# Altium schematic symbol library SEMI.SchLib: 100 symbols
Pins are listed as number, name and electrical type; pins without a type are passive.

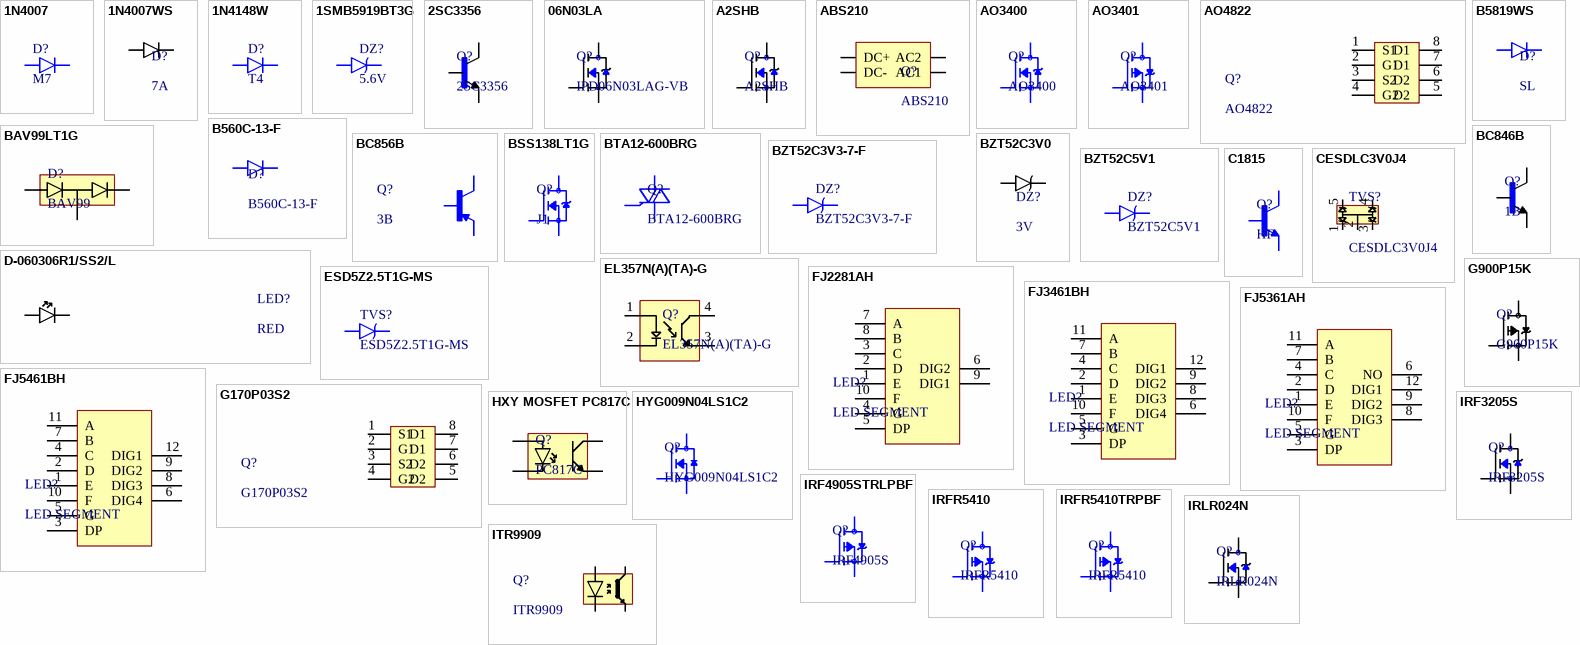
[diagram p0: symbols 1N4007 to ITR9909]

## 1N4007
designator D?, comment M7
Diode Independent 1kV 1A Surface Mount DO-214AC(SMA); Manufacturer: MSKSEMI; Mfr.Part #: 1N4007; Package: DO-214AC(SMA); LCSC Part #: C7528875; DigiKey Part Number: NO; ComponentLink1Description: Link; ComponentLink1URL: https://www.lcsc.com/product-detail/C7528875.html?s_z=n_1N4007
footprint SMA(DO-214AC)
footprint SMA(DO-214AC) - 2
pins: 1 A, 2 K

## 1N4007WS
designator D?, comment 7A
Independent Type 1A 1.1V@1A 1kV SOD-323 Diodes - General Purpose ROHS; Manufacturer: MSKSEMI; Mfr.Part #: 1N4007WS; So_Chan_Dan: 2; So_Chan_Cam: 0; Package: SOD-323; Name: 1N4007WS
footprint SOD-323
pins: 1 A, 2 K

## 1N4148W
designator D?, comment T4
2A 4ns Independent 100V 1.25V@150mA 150mA SOD-123 Single Diodes RoHS; Manufacturer: HXY MOSFET; Mfr.Part #: 1N4148W; Package: SOD-123; LCSC Part #: C5345962; DigiKey Part Number: NO
footprint SOD-123
footprint DO-35
pins: 1 A, 2 K

## 1SMB5919BT3G
designator DZ?, comment 5.6V
Independent Type 5.32V~5.88V 3W 5.6V SMB(DO-214AA) Zener Diodes ROHS; Manufacturer: FUXINSEMI; Mfr.Part #: 1SMB5919BT3G; Package: SMB(DO-214AA); LCSC Part #: C7422622
footprint SMB(DO-214AA)
pins: 1 A, 2 K

## 2SC3356
designator Q?
12V 200mW 100mA SOT-23 Bipolar Transistors - BJT ROHS; Manufacturer: Diotec Semiconductor; So_Chan_Dan: 3; So_Chan_Cam: 0; Mfr.Part #: 2SC3356; Name: 2SC3356; Package: SOT-23
footprint SOT-23
pins: 1 B, 2 E, 3 C

## 06N03LA
designator Q?, comment IPD06N03LAG-VB
20V 145A 3mΩ@4.5V 1PCSNChannel TO-252 MOSFETs ROHS; MF: Infineon Technologies; MP: IRF3205; SnapEDA_Link: https://www.snapeda.com/parts/IRF3205/Infineon+Technologies/view-part/?ref=snap; Package: TO-220 Infineon; Value: *; Check_prices: https://www.snapeda.com/parts/IRF3205/Infineon+Technologies/view-part/?ref=eda
footprint TO-252
pins: 1 G, 2 D, 3 S

## A2SHB
designator Q?
SOT-23 MOSFETs ROHS; Manufacturer: JSMSEMI; Mfr.Part #: JSM2302A-A2SHB; So_Chan_Dan: 3; So_Chan_Cam: 0; Package: SOT-23; Name: A2SHB
footprint SOT-23
pins: 1 G, 2 D, 3 S

## ABS210
designator Q?
Bridge Rectifier 1kV 2A Surface Mount ABS; Manufacturer: MDD(Microdiode Semiconductor); Package: ABS; Mfr.Part #: ABS210; LCSC Part #: C113925; DigiKey Part Number: 3372-ABS210TR-ND; ComponentLink1Description: Link; ComponentLink1URL: https://www.lcsc.com/product-detail/C113925.html; ComponentLink2Description: Link 1; ComponentLink2URL: https://www.digikey.com/en/products/detail/nextgen-components/ABS210/14632404
footprint ABS
pins: 1 DC+, 2 DC-, 3 AC1, 4 AC2

## AO3400
designator Q?
30V 5.8A 40mΩ@4.5V,5A 350mW 1.4V 1 N-channel SOT-23 MOSFETs ROHS; Manufacturer: TWGMC; So_Chan_Dan: 3; So_Chan_Cam: 0; Package: SOT-23; Mfr.Part #: AO3400; Name: AO3400
footprint SOT-23
pins: 1 G, 2 S, 3 D

## AO3401
designator Q?
30V 4.2A 65mΩ@10V,4.2A 350mW 1.3V@250uA 1 Piece P-Channel SOT-23 MOSFETs ROHS; Manufacturer: TWGMC; So_Chan_Dan: 3; So_Chan_Cam: 0; Package: SOT-23; Mfr.Part #: AO3401; Name: AO3401
footprint SOT-23
pins: 1 G, 2 S, 3 D

## AO4822
designator Q?
30V 8A 24mΩ@4.5V,8A 1.7W 1.9V 2 N-Channel SOP-8 MOSFETs ROHS; Manufacturer: JSMSEMI; Mfr.Part #: AO4822; LCSC Part #: C5183841; Package: SOP-8
footprint SOIC-8
pins: 1 S1, 2 G1, 3 S2, 4 G2, 5 D2, 6 D2, 7 D1, 8 D1

## B560C-13-F
designator D?
100A 1 Independent 60V 700mV@5A 5A SMC(DO-214AB) Single Diodes RoHS; Manufacturer: DIODES; Mfr.Part #: B560C-13-F; Package: SMC(DO-214AB); LCSC Part #: C85100; DigiKey Part Number: NO; ComponentLink1Description: Link; ComponentLink1URL: https://www.lcsc.com/product-detail/C85100.html?s_z=n_C85100; ComponentLink2Description: Link 1; ComponentLink2URL: https://www.digikey.com/en/products/detail/diodes-incorporated/B560C-13-F/768773
footprint SMC
pins: 1 A, 2 K

## B5819WS
designator D?, comment SL
25A 40V Independent 550mV@1A 1A SOD-323 Single Diodes RoHS; Manufacturer: GOODWORK; Mfr.Part #: B5819WS; Package: SOD-323; LCSC Part #: C6067464; DigiKey Part Number: NO
footprint SOD-323
pins: 1 A, 2 K

## BAV99LT1G
designator D?, comment BAV99
100V 1 pair in series 1.25V@150mA 6ns 215mA SOT-23 Switching Diodes ROHS; Manufacturer: onsemi; Mfr.Part #: BAV99LT1G; So_Chan_Dan: 2; So_Chan_Cam: 0; Package: SOT-23; Name: BAV99LT1G
footprint SOT-23
pins: 1 A, 2 C, 3 A/C

## BC846B
designator Q?, comment 1B
65V 200mW 200@2mA,5V NPN SOT-23-3 Bipolar (BJT) ROHS; Manufacturer: UMW(Youtai Semiconductor Co., Ltd.); Name: BC846B; Mfr.Part #: BC846B; Package: SOT-23-3
footprint SOT-23
pins: 1 B, 2 E, 3 C

## BC856B
designator Q?, comment 3B
65V 200mW 220@2mA,5V 100mA PNP SOT-23-3 Bipolar (BJT) ROHS; Manufacturer: UMW(Youtai Semiconductor Co., Ltd.); Mfr.Part #: BC856B; LCSC Part #: C545565; Package: SOT-23-3
footprint SOT-23
pins: 1 B, 2 E, 3 C

## BSS138LT1G
designator Q?, comment J1
N-Channel 50V 200mA 225mW Surface Mount SOT-23; Manufacturer: onsemi; Mfr.Part #: BSS138LT1G; Package: SOT-23; LCSC Part #: C82045; DigiKey Part Number: BSS138LT1GOSTR-ND; ComponentLink1Description: Link; ComponentLink1URL: https://www.lcsc.com/product-detail/C82045.html?s_z=n_BSS138; ComponentLink2Description: Link 1; ComponentLink2URL: https://www.digikey.com/en/products/detail/onsemi/BSS138LT1G/918376?s=N4IgTCBcDaIEIGUEEYDMAOAMgFWQcRAF0BfIA
footprint SOT-23
pins: 1 G, 2 S, 3 D

## BTA12-600BRG
designator Q?
600V 12A Through Hole TO-220AB; Manufacturer: ST; Mfr.Part #: BTA12-600BRG; Package: TO-220AB; LCSC Part #: C10063; DigiKey Part Number: 497-2388-5-ND; ComponentLink1Description: Link; ComponentLink1URL: https://www.lcsc.com/product-detail/C10063.html?s_z=n_BTA12-600B; ComponentLink2Description: Link 1; ComponentLink2URL: https://www.digikey.com/en/products/detail/stmicroelectronics/BTA12-600BRG/603413
footprint TO-220
pins: 1 T1, 2 T2, 3 G

## BZT52C3V0
designator DZ?, comment 3V
Independent Type 2.8V~3.2V 500mW 3V SOD-123 Zener Diodes ROHS; Manufacturer: GOODWORK; Mfr.Part #: BZT52C3V0; Package: SOD-123
footprint SOD-123
pins: 1 A, 2 K

## BZT52C3V3-7-F
designator DZ?
Zener Diode Independent 3.3V 370mW Surface Mount SOD-123; Manufacturer: DIODES; Mfr.Part #: BZT52C3V3-7-F; Package: SOD-123; LCSC Part #: C151564; DigiKey Part Number: BZT52C3V3-FDITR-ND; ComponentLink1Description: Link; ComponentLink1URL: https://www.lcsc.com/product-detail/C151564.html; ComponentLink2Description: Link 1; ComponentLink2URL: https://www.digikey.com/en/products/detail/diodes-incorporated/BZT52C3V3-7-F/717734?s=N4IgTCBcDaIEIC0AqBWMBhAzANUwWgHY8AxEAXQF8g
footprint SOD-123
pins: 1 A, 2 K

## BZT52C5V1
designator DZ?
Independent Type 4.8V~5.4V 500mW 5.1V SOD-123 Zener Diodes ROHS; Manufacturer: MDD(Microdiode Semiconductor); So_Chan_Dan: 2; So_Chan_Cam: 0; Mfr.Part #: BZT52C5V1; Package: SOD-123; Name: BZT52C5V1
footprint SOD-123
pins: 1 A, 2 K

## C1815
designator Q?, comment HF
Bipolar (BJT) Transistor NPN 50V 150mA 80MHz 200mW Surface Mount SOT-23; Manufacturer: Shikues; Mfr.Part #: C1815; Package: SOT-23; LCSC Part #: C123401; DigiKey Part Number: NO; ComponentLink1Description: Link; ComponentLink1URL: https://www.lcsc.com/product-detail/C123401.html?s_z=n_C123401; ComponentLink2Description: Link 1
footprint SOT-23
pins: 1 B, 2 E, 3 C

## CESDLC3V0J4
designator TVS?
2.5A 8V 5.3V Unidirectional 3V SOT-353 ESD and Surge Protection (TVS/ESD) ROHS; Manufacturer: Jiangsu Changjing Electronics Technology Co., Ltd.; So_Chan_Dan: 5; So_Chan_Cam: 0; Mfr.Part #: CESDLC3V0J4; Package: SOD-323; Name: CESDLC3V0J4
footprint SOT-353
pins: 1 C, 2 A, 3 C, 4 C, 5 C

## D-060306R1/SS2/L
designator LED?, comment RED
Red 0603 LED Indication - Discrete ROHS; Manufacturer: ARKLED(Wuxi ARK Tech Elec); Mfr.Part #: D-060306R1/SS2/L; Package: 0603; LCSC Part #: C118330
footprint LED-0603
pins: 1 A, 2 K

## EL357N(A)(TA)-G
designator Q?
80V 3.75kV 50mA 100mV@1mA,20mA 1 6V 1.2V DC SOP-4-2.54mm Optocouplers - Phototransistor Output ROH; MP: EL357N-G; MF: Everlight Electronics; Price: None; SnapEDA_Link: https://www.snapeda.com/parts/EL357N-G/Everlight+Electronics+Co+Ltd/view-part/?ref=snap; Package: SOP-4 Everlight; Check_prices: https://www.snapeda.com/parts/EL357N-G/Everlight+Electronics+Co+Ltd/view-part/?ref=eda; Value: *; Availability: In Stock; Purchase-URL: https://pricing.snapeda.com/search/part/EL357N-G/?ref=eda
footprint SOP-4-2.54mm
pins: 1 A, 2 C, 3 ET, 4 CT

## ESD5Z2.5T1G-MS
designator TVS?
10.9VC Clamp 11A Ipp ESD DIODE SOD-523; Manufacturer: MSKSEMI; Mfr.Part #: ESD5Z2.5T1G-MS; Package: SOD-523; LCSC Part #: C3008118; DigiKey Part Number: NO; ComponentLink1Description: Link; ComponentLink1URL: https://www.lcsc.com/product-detail/C3008118.html?s_z=n_ESD5Z2.5T1G-MS
footprint SOD-523
pins: 1 A, 2 K

## FJ2281AH
designator LED?, comment LED SEGMENT
Display Modules - LED Character and Numeric Red 2 Character Common Cathode Through Hole; Manufacturer: ZHIHAO; Mfr.Part #: FJ2281AH; Package: Through Hole; LCSC Part #: C10693; DigiKey Part Number: NO; ComponentLink1Description: Link; ComponentLink1URL: https://www.lcsc.com/product-detail/C10693.html; ComponentLink2Description: Link
footprint LED SEGMENT 2 POSITIONS 0.28INCH
pins: 1 E, 2 D, 3 C, 4 G, 5 DP, 6 DIG2, 7 A, 8 B, 9 DIG1, 10 F

## FJ3461BH
designator LED?, comment LED SEGMENT
Display Modules - LED Character and Numeric Red 4 Character Common Anode Through Hole,DISPLAY 0.36" QUAD RED TH; Manufacturer: ZHIHAO; Mfr.Part #: FJ3461BH; Package: Through Hole; LCSC Part #: C10711; DigiKey Part Number: NO; ComponentLink1Description: Link; ComponentLink1URL: https://www.lcsc.com/product-detail/C10711.html?s_z=n_FJ3461BH
footprint LED_7_THANH_4_SO_0.36_INCH - 1
pins: 1 E, 2 D, 3 DP, 4 C, 5 G, 6 DIG4, 7 B, 8 DIG3, 9 DIG2, 10 F, 11 A, 12 DIG1

## FJ5361AH
designator LED?, comment LED SEGMENT
Display Modules - LED Character and Numeric Red 3 Character Common Cathode Through Hole; Manufacturer: ZHIHAO; Mfr.Part #: FJ5361AH; Package: Through Hole; LCSC Part #: C18187; DigiKey Part Number: NO; ComponentLink1Description: Link; ComponentLink1URL: https://www.lcsc.com/product-detail/C18187.html; ComponentLink2Description: Link
footprint LED SEGMENT 3 POSITIONS 0.56INCH
pins: 1 E, 2 D, 3 DP, 4 C, 5 G, 6 NO, 7 B, 8 DIG3, 9 DIG2, 10 F, 11 A, 12 DIG1

## FJ5461BH
designator LED?, comment LED SEGMENT
Display Modules - LED Character and Numeric Red 4 Character Common Anode Through Hole; Manufacturer: ZHIHAO; Mfr.Part #: FJ5461BH; Package: Through Hole; LCSC Part #: C10713; DigiKey Part Number: NO
footprint LED SEGMENT 4 POSITIONS 0.56INCH
pins: 1 E, 2 D, 3 DP, 4 C, 5 G, 6 DIG4, 7 B, 8 DIG3, 9 DIG2, 10 F, 11 A, 12 DIG1

## G170P03S2
designator Q?
30V 9A 25mΩ@5A,4.5V 1.4W 2.5V@250uA 2 P-Channel SOP-8 MOSFETs ROHS; Manufacturer: GOFORD; So_Chan_Dan: 6; So_Chan_Cam: 0; Mfr.Part #: G170P03S2; Name: G170P03S2; Package: SOP-8
footprint SOIC-8
pins: 1 S1, 2 G1, 3 S2, 4 G2, 5 D2, 6 D2, 7 D1, 8 D1

## G900P15K
designator Q?
P-Channel 150 V 35A (Tc) 198W (Tc) Surface Mount TO-252; Manufacturer: Goford Semiconductor; Package: TO-252; Mfr.Part #: G900P15K; DigiKey Part Number: 3141-G900P15KTR-ND
footprint TO-252
pins: 1 G, 2 D, 3 S

## HXY MOSFET PC817C
designator Q?, comment PC817C
Phototransistor Output 5kVrms 1 Channel SMD-4P; Manufacturer: HXY MOSFET; Mfr.Part #: PC817C; LCSC Part #: C5451663; Package: SMD-4P; DigiKey Part Number: NO; ComponentLink1Description: Link; ComponentLink1URL: https://www.lcsc.com/product-detail/C5451663.html?s_z=n_c5451663; ComponentLink2Description: Link 1
footprint SOP-4
pins: 1 A, 2 K, 3 E, 4 C

## HYG009N04LS1C2
designator Q?
N-Channel 40V 200A 75W Surface Mount PDFN5x6-8L; Manufacturer: HUAYI; Package: PDFN5x6-8L; Mfr.Part #: HYG009N04LS1C2; LCSC Part #: C2890387; DigiKey Part Number: NO; ComponentLink1Description: Link; ComponentLink1URL: https://www.lcsc.com/product-detail/C2890387.html; ComponentLink2Description: Link 1
footprint PDFN5060-8L-1.1MM
pins: 1 S, 2 S, 3 S, 4 G, 5_8 D

## IRF3205S
designator Q?
TO-263 MOSFETs ROHS; Manufacturer: JSMSEMI; So_Chan_Dan: 3; So_Chan_Cam: 0; Mfr.Part #: IRF3205S; Package: TO-263; Name: IRF3205S
footprint TO-263
pins: 1 G, 2 D, 3 S

## IRF4905STRLPBF
designator Q?, comment IRF4905S
P-Channel 55V 70A 170W Surface Mount D2PAK; Manufacturer: Infineon; Mfr.Part #: IRF4905STRLPBF; Package: D2PAK; LCSC Part #: C2620; DigiKey Part Number: IRF4905STRLPBFTR-ND; ComponentLink1Description: Link; ComponentLink1URL: https://www.lcsc.com/product-detail/C2620.html?s_z=n_IRF4905S; ComponentLink2Description: Link 1; ComponentLink2URL: https://www.digikey.com/en/products/detail/infineon-technologies/IRF4905STRLPBF/1928283?s=N4IgTCBcDaIJICUBiAWAnABgKwGUAqCAMgAoBCSIAugL5A
footprint TO-263
pins: 1 G, 2 D, 3 S

## IRFR5410
designator Q?
100V 13A Surface Mount TO-252; Manufacturer: TECH PUBLIC; Package: TO-252; Mfr.Part #: IRFR5410; LCSC Part #: C5342377; DigiKey Part Number: NO; ComponentLink1Description: Link; ComponentLink1URL: https://www.lcsc.com/product-detail/C5342377.html?s_z=n_IRF5410; ComponentLink2Description: Link 1
footprint TO-252
pins: 1 G, 2 D, 3 S

## IRFR5410TRPBF
designator Q?, comment IRFR5410
P-Channel 100V 13A 66W Surface Mount DPAK(TO-252AA); Manufacturer: Infineon; Mfr.Part #: IRFR5410TRPBF; Package: DPAK(TO-252AA); LCSC Part #: C3018; DigiKey Part Number: IRFR5410PBFTR-ND; ComponentLink1Description: Link; ComponentLink1URL: https://www.lcsc.com/product-detail/C3018.html?s_z=n_C3018; ComponentLink2Description: Link 1; ComponentLink2URL: https://www.digikey.com/en/products/detail/infineon-technologies/IRFR5410TRPBF/812646?s=N4IgTCBcDaIJICUBiCCsAWAjABgCoIAUAhJEAXQF8g
footprint TO-252
pins: 1 G, 2 D, 3 S

## IRLR024N
designator Q?
55V 17A 45W 65mΩ@10V,10A 2V@250uA 1PCSNChannel TO-252-2(DPAK) MOSFETs ROHS; Manufacturer: Infineon Technologies; Mfr.Part #: IRLR024NTRPBF; So_Chan_Dan: 3; So_Chan_Cam: 0; Package: TO-252-2(DPAK); Name: IRLR024N
footprint TO-252
pins: 1 G, 2 D, 3 S

## ITR9909
designator Q?
Reflective Optical Interrupters ROHS; Manufacturer: XINGLIGHT; Mfr.Part #: XL-ITR9909; So_Chan_Dan: 0; So_Chan_Cam: 4; Name: ITR9909; Package: Plugin
footprint ITR9909
pins: 1 K, 2 A, 3 E, 4 C

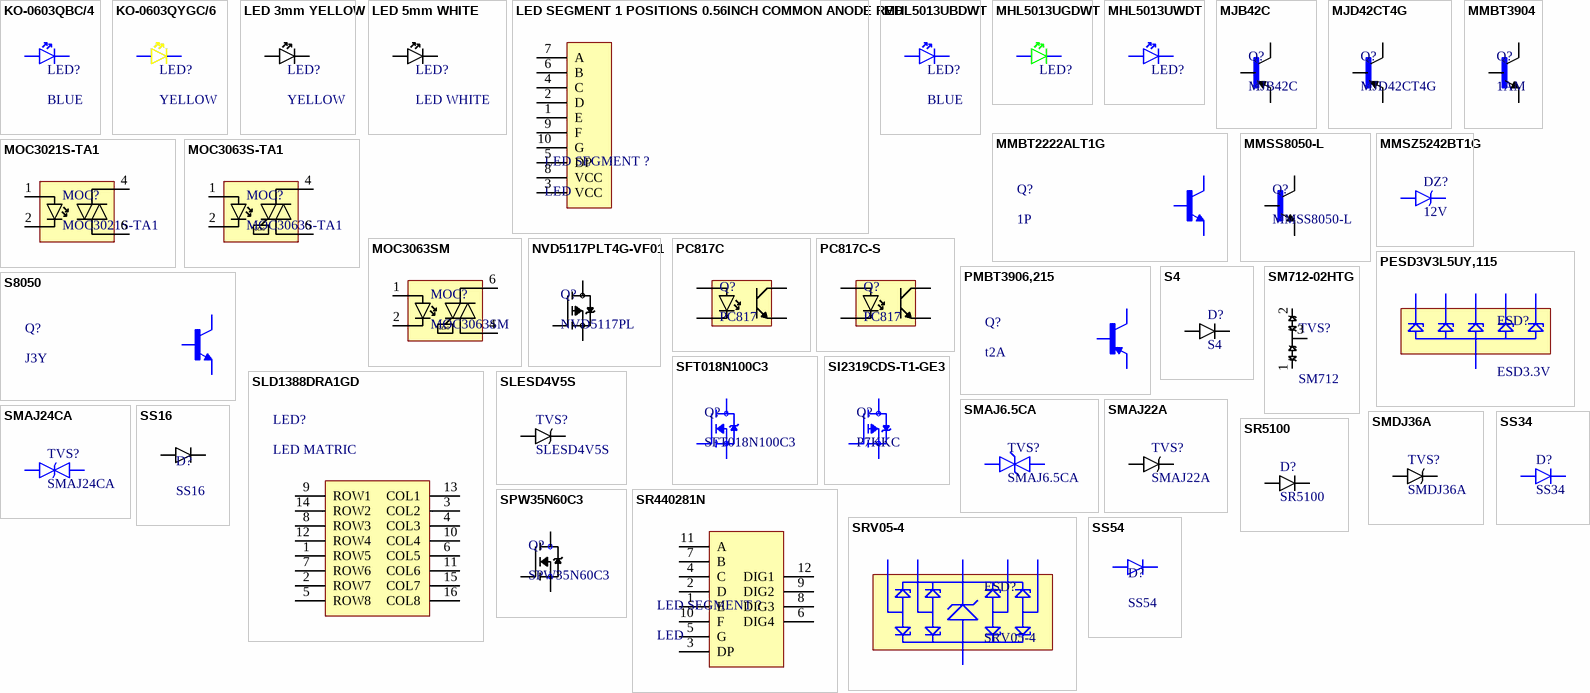
[diagram p1: symbols KO-0603QBC/4 to SS54]

## KO-0603QBC/4
designator LED?, comment BLUE
0603 BLUE; Manufacturer: NO; Mfr.Part #: KO-0603QBC/4; Package: 0603; LCSC Part #: NO; DigiKey Part Number: NO; ComponentLink1Description: Link; ComponentLink2Description: Link 1
footprint LED-0603
pins: 1 A, 2 K

## KO-0603QYGC/6
designator LED?, comment YELLOW
0603 YELLOW; Manufacturer: NO; Mfr.Part #: KO-0603QYGC/6; Package: 0603; LCSC Part #: NO; DigiKey Part Number: NO; ComponentLink1Description: Link; ComponentLink2Description: Link 1
footprint LED-0603
pins: 1 A, 2 K

## LED 3mm YELLOW
designator LED?, comment YELLOW
20mA Yellow lens -20℃~+75℃ 590nm~595nm Yellow 30° 3mm round bulb 60mW Plugin,D=3mm LED Indication - Discrete ROHS; Manufacturer: TUOZHAN; Mfr.Part #: TZ-L2-03YYBY2YDJ30-001; Name: LED 3mm YELLOW; So_Chan_Dan: 0; So_Chan_Cam: 2; Package: Plugin,D=3mm
footprint LED-3MM-YELLOW
pins: 1 A, 2 K

## LED 5mm WHITE
designator LED?, comment LED WHITE
20mA Colorless transparent lens -40℃~+85℃ White 15° 5mm round lamp head 100mW Plugin,D=5mm LED Indication - Discrete ROHS; Manufacturer: Everlight Elec; Mfr.Part #: 333-2UTC/S400-A6; Name: LED 5mm WHITE; So_Chan_Dan: 0; So_Chan_Cam: 2; Package: Plugin,D=5mm
footprint LED-5MM-WHITE
pins: 1 A, 2 K

## LED SEGMENT 1 POSITIONS 0.56INCH COMMON ANODE RED
designator LED SEGMENT ?, comment LED
Red 1 Digit Common Anode 0.56 Plugin LED Segment Displays ROHS; Manufacturer: Shenzhen Zhihao Elec; Mfr.Part #: FJ5161BH; Name: LED SEGMENT 1 POSITIONS 0.56INCH COMMON ANODE RED; So_Chan_Dan: 0; So_Chan_Cam: 10; Package: Plugin
footprint LED SEGMENT 1POSITIONS 0.56INCH
pins: 1 E, 2 D, 3 VCC, 4 C, 5 DP, 6 B, 7 A, 8 VCC, 9 F, 10 G

## MHL5013UBDWT
designator LED?, comment BLUE
20mA Colorless Transparent Lens 468nm -25℃~+85℃ Blue 30° 5mm round lamp head 120mW Plugin,D=5mm LED Indication - Discrete ROHS; Manufacturer: MEIHUA; Mfr.Part #: MHL5013UBDWT; LCSC Part #: C559114; Package: Through Hole,D=5mm
footprint LED-5MM-BLUE
pins: 1 A, 2 K

## MHL5013UGDWT
designator LED?, comment GREEN  (value not drawn)
Emerald Green 525nm LED Indication - Discrete 3.2V Through Hole,D=5mm; Manufacturer: MEIHUA; Mfr.Part #: MHL5013UGDWT; LCSC Part #: C417346; Package: Through Hole,D=5mm; DigiKey Part Number: NO; ComponentLink1Description: Link; ComponentLink1URL: https://www.lcsc.com/product-detail/C417346.html?s_z=n_MHL5013UGDWT; ComponentLink2Description: Link 1
footprint LED-5MM-GREEN
pins: 1 A, 2 K

## MHL5013UWDT
designator LED?, comment WHITE  (value not drawn)
White LED Indication - Discrete 3.2V Through Hole,D=5mm; Manufacturer: MEIHUA; Mfr.Part #: MHL5013UWDT; LCSC Part #: C559115; Package: Through Hole,D=5mm; DigiKey Part Number: NO; ComponentLink1Description: Link; ComponentLink1URL: https://www.lcsc.com/product-detail/C559115.html
footprint LED-5MM-WHITE
pins: 1 A, 2 K

## MJB42C
designator Q?
100V 2W 15@3A,4V 6A PNP TO-263-2 Bipolar (BJT) ROHS; Manufacturer: onsemi; Mfr.Part #: MJB42CT4G; So_Chan_Dan: 3; So_Chan_Cam: 0; Name: MJB42C; Package: TO-263-2
footprint TO-263
pins: 1 B, 2 C, 3 E

## MJD42CT4G
designator Q?
100V 6A PNP TO-252 Bipolar (BJT) ROHS; Manufacturer: MSKSEMI; So_Chan_Dan: 3; So_Chan_Cam: 0; Mfr.Part #: MJD42CT4G; Name: MJD42CT4G; Package: TO-252
footprint TO-252
pins: 1 B, 2 C, 3 E

## MMBT2222ALT1G
designator Q?, comment 1P
Bipolar (BJT) Transistor NPN 40V 600mA 225mW Surface Mount SOT-23; Manufacturer: onsemi; Mfr.Part #: MMBT2222ALT1G; LCSC Part #: C82460; Package: SOT-23; DigiKey Part Number: MMBT2222ALT1GOSTR-ND; ComponentLink1Description: Link; ComponentLink1URL: https://www.lcsc.com/product-detail/C82460.html?s_z=n_mmbt; ComponentLink2Description: Link 1; ComponentLink2URL: https://www.digikey.com/en/products/detail/onsemi/MMBT2222ALT1G/919593
footprint SOT-23
pins: 1 B, 2 E, 3 C

## MMBT3904
designator Q?, comment 1AM
40V 200mW 100@10mA,1V 200mA NPN SOT-23 Bipolar Transistors - BJT ROHS; Manufacturer: HXY MOSFET MMBT3904; Mfr.Part #: MMBT3904; So_Chan_Dan: 3; So_Chan_Cam: 0; Name: MMBT3904; Package: SOT-23
footprint SOT-23
pins: 1 B, 2 E, 3 C

## MMSS8050-L
designator Q?
25V 625mW 120@100mA,1V 1.5A NPN SOT-23 Bipolar (BJT) ROHS; Manufacturer: MCC(Micro Commercial Components); Mfr.Part #: MMSS8050-L-TP; So_Chan_Dan: 3; So_Chan_Cam: 0; Name: MMSS8050-L; Package: SOT-23
footprint SOT-23
pins: 1 B, 2 E, 3 C

## MMSZ5242BT1G
designator DZ?, comment 12V
Zener Diode Independent 12V 500mW Surface Mount SOD-123; Manufacturer: onsemi; Mfr.Part #: MMSZ5242BT1G; Package: SOD-123; LCSC Part #: C82050; DigiKey Part Number: MMSZ5242BT1GOSTR-ND; ComponentLink1Description: Link; ComponentLink1URL: https://www.lcsc.com/product-detail/C82050.html; ComponentLink2Description: Link 1; ComponentLink2URL: https://www.digikey.com/en/products/detail/onsemi/MMSZ5242BT1G/919759
footprint SOD-123
pins: 1 A, 2 K

## MOC3021S-TA1
designator MOC?
1000V/us 50mA 1.15V 400V SMD-6P Triac, SCR Output Optoisolators RoHS; Manufacturer: LITEON; Mfr.Part #: MOC3021S-TA1; Package: SMD-6P; LCSC Part #: C115465; DigiKey Part Number: 160-2045-2-ND; ComponentLink1Description: Link; ComponentLink1URL: https://www.lcsc.com/product-detail/C115465.html?s_z=n_MOC3021S-TA1; ComponentLink2Description: Link 1; ComponentLink2URL: https://www.digikey.com/en/products/detail/liteon/MOC3021S-TA1/388489?s=N4IgTCBcDaILIHkDCBmADGAjAZQLQBUBBTEAXQF8g
footprint SMD-6P
pins: 1 ANODE, 2 CATHODE, 4 MAIN_TERMINAL1, 6 MAIN_TERMINAL2

## MOC3063S-TA1
designator MOC?
1000V/us 1A 20mA 600V 1.4V SMD-6P Triac, SCR Output Optoisolators RoHS; Manufacturer: LITEON; Mfr.Part #: MOC3063S-TA1; Package: SMD-6P; LCSC Part #: C77950; DigiKey Part Number: 160-1723-2-ND; ComponentLink1Description: Link; ComponentLink1URL: https://www.lcsc.com/product-detail/C77950.html?s_z=n_moc3063; ComponentLink2Description: Link 1; ComponentLink2URL: https://www.digikey.com/en/products/detail/liteon/MOC3063S-TA1/670015
footprint SMD-6P
pins: 1 ANODE, 2 CATHODE, 4 MAIN_TERMINAL1, 6 MAIN_TERMINAL2
text: ZERO

## MOC3063SM
designator MOC?
600V/us 100mA 60mA 1.3V 600V SMD-6P Triac, SCR Output Optoisolators RoHS; Manufacturer: onsemi; Mfr.Part #: MOC3063SM; Package: SMD-6P; LCSC Part #: C899841; DigiKey Part Number: MOC3063SM-ND; ComponentLink1Description: Link; ComponentLink1URL: https://www.lcsc.com/product-detail/C899841.html?s_z=n_MOC3063; ComponentLink2Description: Link 1; ComponentLink2URL: https://www.digikey.com/en/products/detail/onsemi/MOC3063SM/401990
footprint SMD-6P
pins: 1 ANODE, 2 CATHODE, 4 MAIN_TERMINAL1, 6 MAIN_TERMINAL2
text: ZERO

## NVD5117PLT4G-VF01
designator Q?, comment NVD5117PL
60V 61A 16mΩ@10V,61A 118W 1.5V 1 piece P-channel DPAK MOSFETs ROHS; Manufacturer: onsemi; Mfr.Part #: NVD5117PLT4G-VF01; Package: DPAK; LCSC Part #: C604532
footprint TO-252
pins: 1 G, 2 D, 3 S

## PC817C
designator Q?, comment PC817
Phototransistor Output 5kVrms 1 Channel SMD-4P; Manufacturer: GOODWORK; Mfr.Part #: PC817C; LCSC Part #: C3025164; Package: SMD-4P; DigiKey Part Number: NO; ComponentLink1Description: Link; ComponentLink1URL: https://www.lcsc.com/product-detail/C3025164.html?s_z=n_C3025164; ComponentLink2Description: Link 1
footprint SOP-4
pins: 1 A, 2 K, 3 E, 4 C

## PC817C-S
designator Q?, comment PC817
Phototransistor Output 5kVrms 1 Channel SOP-4-2.54mm; Manufacturer: UMW; Mfr.Part #: PC817C-S; Package: SOP-4-2.54mm; LCSC Part #: C3008369; DigiKey Part Number: NO; ComponentLink1Description: Link; ComponentLink1URL: https://www.lcsc.com/product-detail/C3008369.html?s_z=n_C3008369; ComponentLink2Description: Link 1
footprint SOP-4
pins: 1 A, 2 K, 3 E, 4 C

## PESD3V3L5UY,115
designator ESD?, comment ESD3.3V
12VC Clamp 2.5A@8/20us Ipp ESD DIODE SOT-363; Manufacturer: Nexperia; Mfr.Part #: PESD3V3L5UY,115; So_Chan_Cam: 0; Package: SOT-363; LCSC Part #: C477992; DigiKey Part Number: 1727-3828-2-ND; ComponentLink1Description: Link; ComponentLink1URL: https://www.lcsc.com/product-detail/C477992.html?s_z=n_PESD3V3L5UY%252C115; ComponentLink2Description: Link 1; ComponentLink2URL: https://www.digikey.com/en/products/detail/nexperia-usa-inc/PESD3V3L5UY-115/1157444?s=N4IgTCBcDaIAoFEDKARAzANTQGQKwFUBNAGgEZTcQBdAXyA
footprint SOT-363
pins: 1 C, 2 A, 3 C, 4 C, 5 C, 6 C

## PMBT3906,215
designator Q?, comment t2A
Bipolar (BJT) Transistor PNP 40V 200mA 250MHz 250mW Surface Mount SOT-23; Manufacturer: Nexperia; Mfr.Part #: PMBT3906,215; LCSC Part #: C8670; Package: SOT-23; DigiKey Part Number: 1727-2960-2-ND; ComponentLink1Description: Link; ComponentLink1URL: https://www.lcsc.com/product-detail/C8670.html?s_z=n_PMBT3906; ComponentLink2Description: Link 1; ComponentLink2URL: https://www.digikey.com/en/products/detail/nexperia-usa-inc/PMBT3906-215/763346
footprint SOT-23
pins: 1 B, 2 E, 3 C

## S4
designator D?
40V Single 350mA 600mV@200mA SOD-123 Schottky Barrier Diodes (SBD) ROHS; Manufacturer: HXY MOSFET; Mfr.Part #: 1N5819W; So_Chan_Dan: 2; So_Chan_Cam: 0; Package: SOD-123; Name: 1N5819W
footprint SOD-123
pins: 1 A, 2 K

## S8050
designator Q?, comment J3Y
25V 300mW 350@50mA,1V 300mA NPN SOT-23 Bipolar (BJT) ROHS; Manufacturer: JSMSEMI; Mfr.Part #: S8050-J3Y; LCSC Part #: C18221467; Package: SOT-23; DigiKey Part Number: NO
footprint SOT-23
pins: 1 B, 2 E, 3 C

## SFT018N100C3
designator Q?
N-Channel 100V 320A 312W Surface Mount TOLL; Manufacturer: SCILICON; Package: TOLL; Mfr.Part #: SFT018N100C3; LCSC Part #: C42395330; DigiKey Part Number: NO; ComponentLink1Description: Link; ComponentLink1URL: https://www.lcsc.com/product-detail/C42395330.html?s_z=n_c42395330; ComponentLink2Description: Link 1
footprint TOLL
pins: 1 G, 2 S, 3 D

## SI2319CDS-T1-GE3
designator Q?, comment P7KKC
P-Channel 40V 4.4A 2.5W Surface Mount SOT-23; Manufacturer: VISHAY; Mfr.Part #: SI2319CDS-T1-GE3; Package: SOT-23; LCSC Part #: C146287; DigiKey Part Number: SI2319CDS-T1-GE3TR-ND; ComponentLink1Description: Link; ComponentLink1URL: https://www.lcsc.com/product-detail/C146287.html?s_z=n_Si2319; ComponentLink2Description: Link 1; ComponentLink2URL: https://www.digikey.com/en/products/detail/vishay-siliconix/SI2319CDS-T1-GE3/2441585?s=N4IgTCBcDaIMoEkwGYCMBOAwgETgWgBVU8BxAUWRAF0BfIA
footprint SOT-23
pins: 1 G, 2 S, 3 D

## SLD1388DRA1GD
designator LED?, comment LED MATRIC
Common Anode 8x8 Red Plugin LED Dot Matrix and Cluster ROHS; Manufacturer: SUNLIGHT; Mfr.Part #: SLD1388DRA1GD; Package: Through Hole; LCSC Part #: C2913075; DigiKey Part Number: NO
footprint LED MATRIX 8X8DOT 32X32MM
pins: 1 ROW5, 2 ROW7, 3 COL2, 4 COL3, 5 ROW8, 6 COL5, 7 ROW6, 8 ROW3, 9 ROW1, 10 COL4, 11 COL6, 12 ROW4, 13 COL1, 14 ROW2, 15 COL7, 16 COL8

## SLESD4V5S
designator TVS?
1.26kW 5V Unidirectional 4.5V SOD-323 ESD and Surge Protection (TVS/ESD) ROHS; Manufacturer: Slkor(SLKORMICRO Elec.); So_Chan_Dan: 2; So_Chan_Cam: 0; Mfr.Part #: SLESD4V5S; Package: SOD-323; Name: SLESD4V5S
footprint SOD-323
pins: 1 A, 2 K

## SM712-02HTG
designator TVS?, comment SM712
19A@8/20us 600W@8/20us Bidirectional SOT-23 ESD and Surge Protection (TVS/ESD) ROHS; Manufacturer: Littelfuse; Mfr.Part #: SM712-02HTG; Package: SOT-23; LCSC Part #: C172881
footprint SOT-23
pins: 1 C, 2, 3 A

## SMAJ6.5CA
designator TVS?
35.7A 400W 11.2V 7.22V 6.5V SMA(DO-214AC) ESD and Surge Protection (TVS/ESD) ROHS; Manufacturer: GOODWORK; Mfr.Part #: SMAJ6.5CA; Package: SMA(DO-214AC); LCSC Part #: C908811; DigiKey Part Number: NO
footprint SMA(DO-214AC)-1
pins: 1, 2

## SMAJ22A
designator TVS?
11.3A 35.5V 400W 24.4V Unidirectional 22V SMA ESD and Surge Protection (TVS/ESD) ROHS; Manufacturer: PAKER; So_Chan_Dan: 2; So_Chan_Cam: 0; Mfr.Part #: SMAJ22A; Package: SMA; Name: SMAJ22A
footprint SMA(DO-214AC)
pins: 1 A, 2 K

## SMAJ24CA
designator TVS?
10.3A 400W@10/1000us 38.9V 29.5V Bidirectional 24V DO-214AC(SMA) TVS Diodes RoHS; Manufacturer: Littelfuse; Mfr.Part #: SMAJ24CA; Package: SMA(DO-214AC); LCSC Part #: C148223; DigiKey Part Number: SMAJ24CALFTR-ND
footprint SMA(DO-214AC)
footprint SMA(DO-214AC)-1
pins: 1 A, 2 K

## SMDJ36A
designator TVS?
51.6A 58.1V 3kW 40V Unidirectional 36V SMC ESD and Surge Protection (TVS/ESD) ROHS; Manufacturer: SETsafe | SETfuse; So_Chan_Dan: 2; So_Chan_Cam: 0; Mfr.Part #: SMDJ36A; Package: SMC; Name: SMDJ36A
footprint SMC
pins: 1 A, 2 K

## SPW35N60C3
designator Q?
TO-247AC-3 MOSFETs ROHS; Manufacturer: Infineon Technologies; So_Chan_Dan: 0; So_Chan_Cam: 3; Package: TO-247AC-3; Mfr.Part #: SPW35N60C3; Name: SPW35N60C3
footprint TO-247-3
pins: 1 G, 2 D, 3 S

## SR5100
designator D?
100V 850mV@5A 5A DO-201AD Schottky Diodes ROHS; Manufacturer: MDD(Microdiode Semiconductor); So_Chan_Dan: 0; So_Chan_Cam: 2; Mfr.Part #: SR5100; Package: DO-201AD; Name: SR5100
footprint DO-201AD
pins: 1 A, 2 K

## SR440281N
designator LED SEGMENT ?, comment LED
Red 4Bit Common Cathode 0.28 Plugin LED Segment Displays ROHS; Manufacturer: ARKLED(Wuxi ARK Tech Elec); Mfr.Part #: SR440281N; Package: Plugin
footprint LED SEGMENT 4 POSITIONS 0.28INCH
footprint LED SEGMENT 4 POSITIONS 0.28INCH-1
pins: 1 E, 2 D, 3 DP, 4 C, 5 G, 6 DIG4, 7 B, 8 DIG3, 9 DIG2, 10 F, 11 A, 12 DIG1

## SRV05-4
designator ESD?
12VC Clamp 4.5A@8/20us Ipp ESD DIODE SOT-23-6; Manufacturer: MSKSEMI; So_Chan_Cam: 0; Mfr.Part #: SRV05-4; Package: SOT-23-6; LCSC Part #: C2836319; DigiKey Part Number: NO; ComponentLink1Description: Link; ComponentLink1URL: https://www.lcsc.com/product-detail/C2836319.html?s_z=n_SRV05-4; ComponentLink2Description: Link 1
footprint SOT23-6
pins: 1 C, 2 A, 3 C, 4 C, 5 C, 6 C

## SS16
designator D?
60V 1A 700mV@1A SMA(DO-214AC) Schottky Diodes ROHS; Manufacturer: GOODWORK; So_Chan_Dan: 2; So_Chan_Cam: 0; Mfr.Part #: SS16; Package: SMA(DO-214AC); Name: SS16
footprint SMA(DO-214AC)
pins: 1 A, 2 K

## SS34
designator D?
Diode Independent 40V 3A Surface Mount SMA(DO-214AC); Manufacturer: GOODWORK; Mfr.Part #: SS34; Package: SMA(DO-214AC); LCSC Part #: C908680; DigiKey Part Number: NO; ComponentLink1Description: Link; ComponentLink1URL: https://www.lcsc.com/product-detail/C908680.html?s_z=n_C908680
footprint SMA(DO-214AC)
footprint SMA(DO-214AC) - 2
pins: 1 A, 2 K

## SS54
designator D?
Diode 40V 5A Surface Mount SMA; Manufacturer: JSMSEMI; Mfr.Part #: SS54; Package: SMA; LCSC Part #: C20609300; DigiKey Part Number: NO; ComponentLink1Description: Link; ComponentLink1URL: https://www.lcsc.com/product-detail/C20609300.html?s_z=n_C20609300
footprint SMA(DO-214AC)
footprint SMA(DO-214AC) - 2
pins: 1 A, 2 K

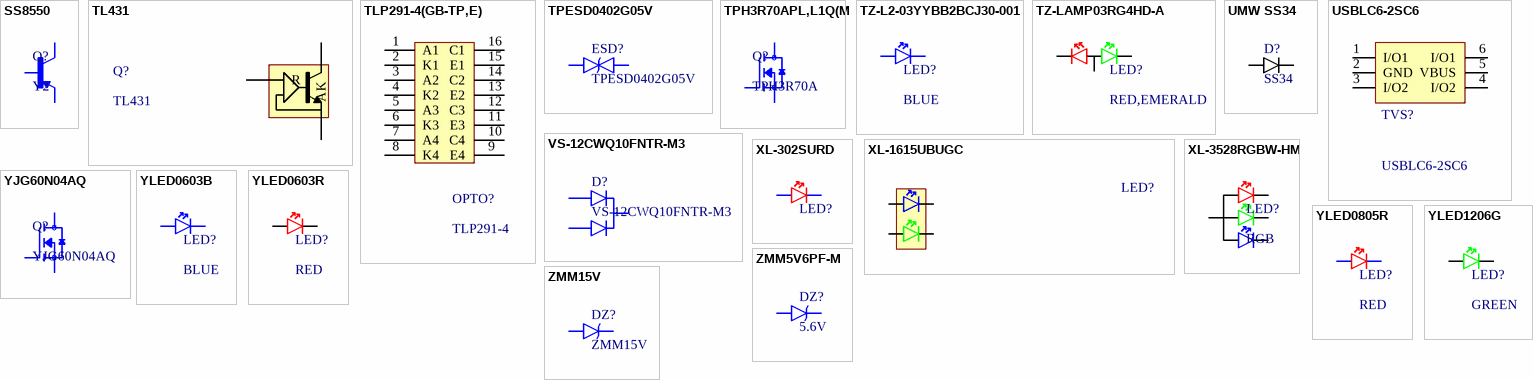
[diagram p2: symbols SS8550 to ZMM15V]

## SS8550
designator Q?, comment Y2
25V 300mW 200@100mA,1V 1.5A PNP SOT-23 Bipolar (BJT) ROHS; Manufacturer: Jiangsu Changjing Electronics Technology Co., Ltd.; Mfr.Part #: SS8550 Y2(RANGE:200-350); Name: MJB42C; So_Chan_Dan: 3; So_Chan_Cam: 0; Package: SOT-23
footprint SOT-23
pins: 1 B, 2 E, 3 C

## TL431
designator Q?
2.5V~36V 2.495V 100mA Programmable SOT-23 Voltage Reference ROHS; Manufacturer: UTC(Unisonic Tech); Mfr.Part #: TL431G-AE2-R; So_Chan_Dan: 3; So_Chan_Cam: 0; Name: TL431; Package: SOT-23
footprint SOT-23
pins: 1 R, 2 K, 3 A

## TLP291-4(GB-TP,E)
designator OPTO?, comment TLP291-4
50mA 400mV@2.4mA,8mA 80V 5V 1.2V DC SOP-16-4.4mm Transistor, Photovoltaic Output Optoisolators RoHS; Manufacturer: TOSHIBA; Mfr.Part #: TLP291-4(GB-TP,E); Package: SOP-16-4.4mm; LCSC Part #: C60900; DigiKey Part Number: TLP291-4(GB-TPE)TR-ND; ComponentLink1Description: Link; ComponentLink1URL: https://www.lcsc.com/product-detail/C60900.html; ComponentLink2Description: Link 1; ComponentLink2URL: https://www.digikey.com/en/products/detail/toshiba-semiconductor-and-storage/TLP291-4-GB-TP-E/4562881?s=N4IgTCBcDaICoBkAKYCcBGAtAFgBQHEAhTOJAGgFEBKEAXQF8g
footprint SOP-16-4.4mm
pins: 1 A1, 2 K1, 3 A2, 4 K2, 5 A3, 6 K3, 7 A4, 8 K4, 9 E4, 10 C4, 11 E3, 12 C3, 13 E2, 14 C2, 15 E1, 16 C1

## TPESD0402G05V
designator ESD?
5VWM 40VC 0402; Manufacturer: TECH PUBLIC; Mfr.Part #: TPESD0402G05V; Package: 0402; LCSC Part #: C558615; DigiKey Part Number: NO; ComponentLink1Description: Link; ComponentLink1URL: https://www.lcsc.com/product-detail/C558615.html?s_z=n_GESD1005H5R5CR10GPT&spm=wm.ssy.bg.0.xh&lcsc_vid=QwdcUVxUFAdbVwUFRQBWBVECTlNYX1QAQFddU1EFQ1kxVlNRQ1NfVlJXQVdeUTsOAxUeFF5JWBYZEEoKFBINSQcJGk4dAgUUFAk%3D; ComponentLink2Description: Link 1
footprint 0402
pins: 1 A, 2 K

## TPH3R70APL,L1Q(M
designator Q?, comment TPH3R70A
N-Channel 100V 90A 170W SOP-8-Advance; Manufacturer: TOSHIBA; Mfr.Part #: TPH3R70APL,L1Q(M; Package: PDFN5060-8L; LCSC Part #: C471285; DigiKey Part Number: 264-TPH3R70APLL1QTR-ND; ComponentLink1Description: Link; ComponentLink1URL: https://www.lcsc.com/product-detail/C20605803.html?s_z=n_YJG60N04AQ; ComponentLink2Description: Link 1; ComponentLink2URL: 264-TPH3R70APLL1QTR-ND
footprint PDFN5060-8L-1.1MM
pins: 1 S, 2 S, 3 S, 4 G, 5_8 D

## TZ-L2-03YYBB2BCJ30-001
designator LED?, comment BLUE
20mA 2000mcd 460nm~465nm Blue 2.8V~3.4V 3mm Round Lens 90mW Through Hole,D=3mm LED Indication - Discrete RoHS; Manufacturer: TUOZHAN; Mfr.Part #: TZ-L2-03YYBB2BCJ30-001; Package: Through Hole,D=3mm; LCSC Part #: C779435; DigiKey Part Number: NO
footprint LED-3MM-BLUE
pins: 1 A, 2 K

## TZ-LAMP03RG4HD-A
designator LED?, comment RED,EMERALD
20mA Red, Emerald Green 3mm Round Lens Through Hole,D=3mm LED Indication - Discrete RoHS; Manufacturer: TUOZHAN; Mfr.Part #: TZ-LAMP03RG4HD-A; Package: Through Hole,D=3mm; LCSC Part #: C779416; DigiKey Part Number: NO
footprint LED-3MM-A
pins: 1 R, 2 A, 3 G

## UMW SS34
designator D?, comment SS34
40V 500mV@3A 3A SMA(DO-214AC) Schottky Diodes ROHS; Manufacturer: UMW(Youtai Semiconductor Co., Ltd.); Mfr.Part #: SS34; Package: SMA(DO-214AC); LCSC Part #: C2758579
footprint SMA(DO-214AC)
pins: 1 A, 2 K

## USBLC6-2SC6
designator TVS?
6A 15V 150W 9V 5V SOT-23-6 TVS Diodes RoHS; Manufacturer: TWGMC; Mfr.Part #: USBLC6-2SC6; Package: SOT-23-6; LCSC Part #: C5250994; DigiKey Part Number: NO
footprint SOT23-6
pins: 1 I/O1, 2 GND, 3 I/O2, 4 I/O2, 5 VBUS, 6 I/O1

## VS-12CWQ10FNTR-M3
designator D?
Diode Array 1 Pair Common Cathode 100V 6A Surface Mount DPAK(TO-252AA); Manufacturer: VISHAY; Mfr.Part #: VS-12CWQ10FNTR-M3; Package: DPAK(TO-252AA); LCSC Part #: C241867; DigiKey Part Number: VS-12CWQ10FNTR-M3TR-ND; ComponentLink1Description: Link; ComponentLink1URL: https://www.lcsc.com/product-detail/C241867.html?s_z=n_12CWQ10FN; ComponentLink2Description: Link 1; ComponentLink2URL: https://www.digikey.com/en/products/detail/vishay-general-semiconductor-diodes-division/VS-12CWQ10FNTR-M3/4933563?s=N4IgTCBcDaIGoGUC0BGMBhA6gRRQBgDEA5AFQCUkBZAZhAF0BfIA
footprint TO-252
pins: 1 A, 2 K, 3 A

## XL-302SURD
designator LED?, comment RED  (value not drawn)
White LED Indication - Discrete 3.2V Through Hole,D=5mm; Manufacturer: XINGLIGHT; Mfr.Part #: XL-302SURD; LCSC Part #: C2895470; Package: Through Hole,D=3mm; DigiKey Part Number: 5962-XL-302SURD-ND; ComponentLink1Description: Link; ComponentLink1URL: https://www.lcsc.com/product-detail/C2895470.html; ComponentLink2Description: Link 1; ComponentLink2URL: https://www.digikey.com/en/products/detail/xinglight/XL-302SURD/25673354?s=N4IgTCBcDaIBoBkC0BmADGAygVQEoBEQBdAXyA
footprint LED-3MM-RED
pins: 1 A, 2 K

## XL-1615UBUGC
designator LED?, comment BLUE,GREEN  (value not drawn)
20mA Colorless Transparent Lens -20℃~+85℃ Positive Stick Common Anode Emerald,Blue 70mW 3.4V 0606 LED Indication - Discrete ROHS; Manufacturer: XINGLIGHT; Mfr.Part #: XL-1615UBUGC; Package: 0606; LCSC Part #: C965835; DigiKey Part Number: 5962-XL-1615UBUGCTR-ND
footprint 0606
pins: 1 B, 2 G, 3 A2, 4 A1

## XL-3528RGBW-HM
designator LED?, comment RGB
3528 multicolor foggy common-anode SMD light-emitting diodes; Manufacturer: XINGLIGHT; Mfr.Part #: XL-3528RGBW-HM; Package: SMD3528-4P; LCSC Part #: C2843813; DigiKey Part Number: 5962-XL-3528RGBW-HMTR-ND
footprint SMD3528-4P
pins: 1 R, 2 A, 3 G, 4 B

## YJG60N04AQ
designator Q?
N-Channel 40V 60A 50W Surface Mount PDFN5060-8L; Manufacturer: YANGJIE; Package: PDFN5060-8L; Mfr.Part #: YJG60N04AQ; LCSC Part #: C20605803; DigiKey Part Number: NO; ComponentLink1Description: Link; ComponentLink1URL: https://www.lcsc.com/product-detail/C20605803.html?s_z=n_YJG60N04AQ
footprint PDFN5060-8L-1.1MM
pins: 1 S, 2 S, 3 S, 4 G, 5_8 D

## YLED0603B
designator LED?, comment BLUE
30mA 42mcd~86mcd 460nm~475nm Blue 2.6V~3.2V 0603 LED Indication - Discrete ROHS; Manufacturer: YONGYUTAI; Mfr.Part #: YLED0603B; Package: 0603; LCSC Part #: C19171394; DigiKey Part Number: NO
footprint LED-0603
pins: 1 A, 2 K

## YLED0603R
designator LED?, comment RED
25mA 1.8V~2.4V Red 0603 LED Indication - Discrete ROHS; Manufacturer: YONGYUTAI; Mfr.Part #: YLED0603R; Package: 0603; LCSC Part #: C19171390; DigiKey Part Number: NO; ComponentLink1Description: Link; ComponentLink1URL: https://www.lcsc.com/product-detail/C19171390.html?s_z=n_C19171390; ComponentLink2Description: Link 1
footprint LED-0603
pins: 1 A, 2 K

## YLED0805R
designator LED?, comment RED
Red 645nm LED Indication - Discrete 1.8V~2.4V 0805; Manufacturer: YONGYUTAI; Mfr.Part #: YLED0805R; Package: 0805; LCSC Part #: C19171391; DigiKey Part Number: NO; ComponentLink1Description: Link; ComponentLink1URL: https://www.lcsc.com/product-detail/C19171391.html?s_z=n_LED
footprint LED-0805
pins: 1 A, 2 K

## YLED1206G
designator LED?, comment GREEN
Emerald Green 525nm LED Indication - Discrete 2.4V~3.1V 1206; Manufacturer: YONGYUTAI; Mfr.Part #: YLED1206G; Package: 1206; LCSC Part #: C30584801; DigiKey Part Number: NO
footprint LED-GREEN-1206
pins: 1 A, 2 K

## ZMM5V6PF-M
designator DZ?, comment 5.6V
Zener Diode 5.6V 500mW Surface Mount LL-34; Manufacturer: ST(Semtech); Mfr.Part #: ZMM5V6PF-M; Package: LL-34; LCSC Part #: C7497481; DigiKey Part Number: NO; ComponentLink1Description: Link; ComponentLink1URL: https://www.lcsc.com/product-detail/C7497481.html?s_z=n_ZMM5V6&spm=wm.ssy.bg.3.xh&lcsc_vid=QVhYA1deElkMBVEAQVVWVAECEVVXUAcCTgNYUQVSEVAxVlNRQ1VaXl1WTlFdUTsOAxUeFF5JWBYZEEoKFBINSQcJGk4dAgUUFAk%3D; ComponentLink2Description: Link 1; ComponentLink2URL: *
footprint LL-34
pins: 1 A, 2 K

## ZMM15V
designator DZ?
Zener Diode Independent 15V 500mW Surface Mount LL-34; Manufacturer: HXY MOSFET; Mfr.Part #: ZMM15V; Package: LL-34; LCSC Part #: C5346000; DigiKey Part Number: NO; ComponentLink1Description: Link; ComponentLink1URL: https://www.lcsc.com/product-detail/C5346000.html?s_z=n_ZMM15V
footprint LL-34
pins: 1 A, 2 K